# Altium footprint library PCB - RESISTOR - AXIAL.PCBLIB: 1 footprints
Each footprint in its own frame and in the unit in brackets; x right, y up, seen from the top. Pads: shape width x height; smd on the part's side, far side on the other; paste and mask are expansions set on the pad; w line width, h text height; cw(c..) or ccw(c..) is an arc to the next point about the centre after c.
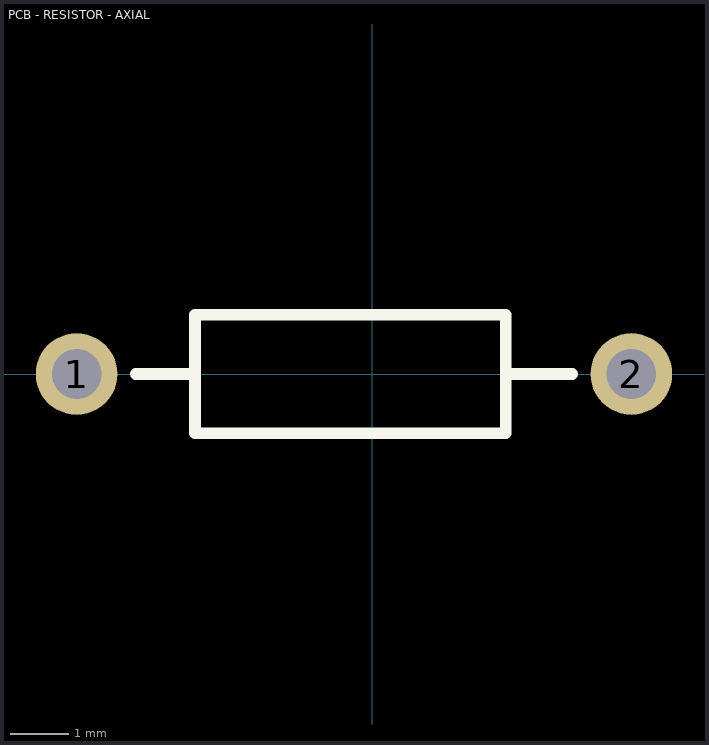
[diagram p0: the footprint, top view; thin cyan lines are the x and y axes]

## PCB - RESISTOR - AXIAL [mm] "Axial Device, Thru-Hole; 2 Leads"
height 2.032
pads (2):
  round 1.4 hole 0.85: 1(-5.08,0) 2(4.445,0)
Top Overlay:
  lines w0.2: -4.064,0 -3.048,0 ; 2.413,0 3.429,0 ; -3.048,-1.016 -3.048,1.016 2.286,1.016 2.286,-1.016 -3.048,-1.016
3D body "Res_Stackpole_Electronics_PCF14JT7K50_eec.STEP": height 0.25, standoff 0, extent -5.83,-1.4 5.23,1.4